# EAGLE library part MPU-9150 (library sensor)
MPU-9150 InvenSense MPU-9150 9-axis accelerometer, rate gyro, and magnetometer
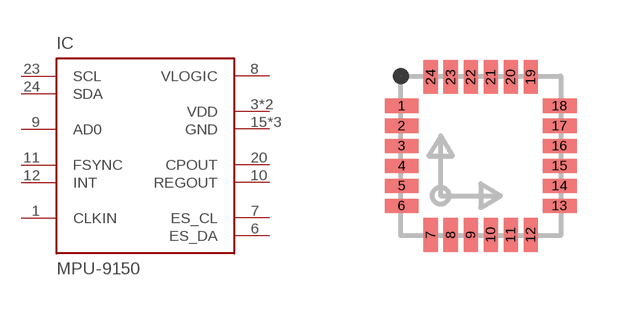
[diagram p0: symbol with the pads of LGA-24-INVENSENSE; footprint LGA-24-INVENSENSE]

Designator prefix IC

## MPU-9150  [LGA-24-INVENSENSE]
1  CLKIN
3  VDD  pwr
6  ES_DA
7  ES_CL
8  VLOGIC
9  AD0
10  REGOUT
11  FSYNC
12  INT
13  VDD  pwr
15  GND  pwr
17  GND  pwr
18  GND  pwr
20  CPOUT
23  SCL
24  SDA

## Footprint LGA-24-INVENSENSE (pad centres in mm)
LGA-24 InvenSense Lead Grid Array package with InvenSense IMU orientation markings
smd 0.85 x 0.35: 1 -1.975,1.25; 2 -1.975,0.75; 3 -1.975,0.25; 4 -1.975,-0.25; 5 -1.975,-0.75; 6 -1.975,-1.25; 13 1.975,-1.25; 14 1.975,-0.75; 15 1.975,-0.25; 16 1.975,0.25; 17 1.975,0.75; 18 1.975,1.25
smd 0.35 x 0.85: 7 -1.25,-1.975; 8 -0.75,-1.975; 9 -0.25,-1.975; 10 0.25,-1.975; 11 0.75,-1.975; 12 1.25,-1.975; 19 1.25,1.975; 20 0.75,1.975; 21 0.25,1.975; 22 -0.25,1.975; 23 -0.75,1.975; 24 -1.25,1.975